# Altium integrated library TI Power Management Step-Up Regulator.IntLib: 226 symbols (part 11 of 11)
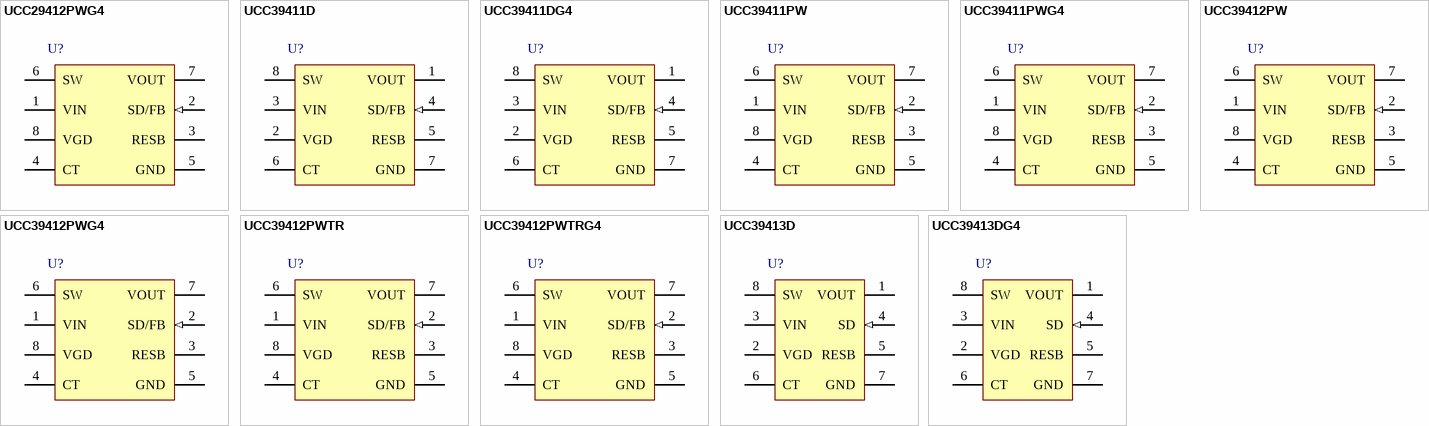
[diagram p16: symbols UCC29412PWG4 to UCC39413DG4]

## UCC29412PWG4
designator U?
Boost Regulator with 1 to 3.8 V Input and 3.3 V Output, -40 to 85 degC, 8-Pin TSSOP (PW); Manufacturer: Texas Instruments; PartNumber: UCC29412PWG4; Eco-Plan: Green (RoHS & no Sb/Br); Preset Vout(V): 3.3; Regulated Outputs(#): 1; SubFamily: Step-Up Regulator; Switching Frequency(Max)(kHz): 500; Synchronous Rectification: TRUE; Vin(Max)(V): 3.8; DatasheetVersion: SLUS245E; PackageVersion: revG, Feb-2011; PackageReference: PW8; PackageDescription: 8-Pin Plastic Thin Small Outline Package 3 x 4.4 mm Body ,0.65 mm Pitch; Supplier 1: Digi-Key; Supplier Part Number 1: UCC29412PWG4-ND; Supplier 2: Newark; Supplier Part Number 2: 54K2068; Supplier 3: Mouser; Supplier Part Number 3: 595-UCC29412PWG4; Topology: Boost; Vin(Min)(V): 1; Vout(Max)(V): 3.3; Vout(Min)(V): 3.3; Mounting Technology: Surface Mount; Code_JEDEC: MO-153; ComponentLink1Description: Datasheet; ComponentLink1URL: http://www.ti.com/general/docs/lit/getliterature.tsp?genericPartNumber=UCC29412&fileType=pdf; ComponentLink2Description: Package Specification; ComponentLink2URL: http://www.ti.com/litv/pdf/mtss001d
footprint PW8_N (TSOP, 8-Leads, Body 3x4.4mm, Pitch 0.65mm, IPC Medium Density)
footprint PW8_L (TSOP, 8-Leads, Body 3x4.4mm, Pitch 0.65mm, IPC High Density)
footprint PW8_M (TSOP, 8-Leads, Body 3x4.4mm, Pitch 0.65mm, IPC Low Density)
pins: 1 VIN (power) "Input voltage to supply the IC during start-up. After the output is running the IC draws power from VOUT or VGD.", 2 SD/FB (in) "For the UCC39411, this pin is used to adjust the output voltage via a resistive divider from VOUT. It also serves as the shutdown pin for all three versions. Pulling this pin low provides a shutdown signal to the IC.", 3 RESB (oc) "This pin provides an active low signal to alert the user when the main output voltage falls below 10% of its targeted value. The open-drain output can be used to reset a microcontroller that may be powered off of the main (See Datasheet)", 4 CT "This pin provides the timer for determining the reset period. The period is controlled by placing a capacitor to ground of value C = (0.81e-6) x  t where t is the desired reset period.", 5 GND (power) "Ground of the IC.", 6 SW (power) "An inductor is connected between this pin and VIN. The VGD (gate drive supply) flyback diode is also connected to this pin. When servicing the main output supply this pin pulls low, charging the inductor, then shuts off (See Datasheet)", 7 VOUT (power) "Main output voltage (3.3 V, 5 V, or adjustable), has highest priority in the multiplexing scheme, as long as VGD is above the critical level of 6.3 V. Startup at full load is achievable at input voltages down to 1 V", 8 VGD (power) "The VGD pin, which is coarsely regulated around 7 V (8.5 V for the UCC39413), is primarily used for the gate drive supply for the power switches in the IC. This pin can be loaded with up to 10 mA as long as it does not (See Datasheet)"

## UCC39411D
designator U?
Boost Regulator with 1 to 5.5 V Input and 2 to 5 V Output, 0 to 70 degC, 8-Pin SOIC (D), Green (RoHS & no Sb/Br); Manufacturer: Texas Instruments; PartNumber: UCC39411D; Regulated Outputs(#): 1; SubFamily: Step-Up Regulator; Switching Frequency(Max)(kHz): 500; Synchronous Rectification: TRUE; Vin(Max)(V): 5.5; Vout(Max)(V): 5; Vout(Min)(V): 2; DatasheetVersion: SLUS245E; PackageVersion: revM, Jun-2011; PackageReference: D8; PackageDescription: 8-Pin Plastic Small Outline Integrated Circuit, 4.9 x 3.9 mm, Pitch 1.27 mm Pitch; Supplier 1: Digi-Key; Supplier Part Number 1: UCC39411D-ND; Supplier 2: Newark; Supplier Part Number 2: 77C2609; Supplier 3: Mouser; Supplier Part Number 3: 595-UCC39411D; Eco-Plan: Green (RoHS & no Sb/Br); Topology: Boost; Vin(Min)(V): 1; Mounting Technology: Surface Mount; Code_JEDEC: MS-012AA; ComponentLink1Description: Datasheet; ComponentLink1URL: http://www.ti.com/general/docs/lit/getliterature.tsp?genericPartNumber=UCC39411&fileType=pdf; ComponentLink2Description: Package Specification; ComponentLink2URL: http://www.ti.com/litv/pdf/msoi002j
footprint D8_N (SOIC, 8-Leads, Body 4.9x3.9mm, Pitch 1.27mm, IPC Medium Density)
footprint D8_L (SOIC, 8-Leads, Body 4.9x3.9mm, Pitch 1.27mm, IPC High Density)
footprint D8_M (SOIC, 8-Leads, Body 4.9x3.9mm, Pitch 1.27mm, IPC Low Density)
pins: 1 VOUT (power) "Main output voltage (3.3 V, 5 V, or adjustable), has highest priority in the multiplexing scheme, as long as VGD is above the critical level of 6.3 V. Startup at full load is achievable at input voltages down to 1 V.", 2 VGD (power) "The VGD pin, which is coarsely regulated around 7 V (8.5 V for the UCC39413), is primarily used for the gate drive supply for the power switches in the IC. This pin can be loaded with up to 10 mA as long as it does not (See Datasheet)", 3 VIN (power) "Input voltage to supply the IC during start-up. After the output is running the IC draws power from VOUT or VGD.", 4 SD/FB (in) "For the UCC39411, this pin is used to adjust the output voltage via a resistive divider from VOUT. It also serves as the shutdown pin for all three versions. Pulling this pin low provides a shutdown signal to the IC.", 5 RESB (oc) "This pin provides an active low signal to alert the user when the main output voltage falls below 10% of its targeted value. The open-drain output can be used to reset a microcontroller that may be powered off of the main (See Datasheet)", 6 CT "This pin provides the timer for determining the reset period. The period is controlled by placing a capacitor to ground of value C = (0.81e-6) ´ t where t is the desired reset period.", 7 GND (power) "Ground of the IC.", 8 SW (power) "An inductor is connected between this pin and VIN. The VGD (gate drive supply) flyback diode is also connected to this pin. When servicing the main output supply this pin pulls low, charging the inductor, then shuts off (See Datasheet)"

## UCC39411DG4
designator U?
Boost Regulator with 1 to 5.5 V Input and 2 to 5 V Output, 0 to 70 degC, 8-Pin SOIC (D), Green (RoHS & no Sb/Br); Manufacturer: Texas Instruments; PartNumber: UCC39411DG4; Regulated Outputs(#): 1; SubFamily: Step-Up Regulator; Switching Frequency(Max)(kHz): 500; Synchronous Rectification: TRUE; Vin(Max)(V): 5.5; Vout(Max)(V): 5; Vout(Min)(V): 2; DatasheetVersion: SLUS245E; PackageVersion: revM, Jun-2011; PackageReference: D8; PackageDescription: 8-Pin Plastic Small Outline Integrated Circuit, 4.9 x 3.9 mm, Pitch 1.27 mm Pitch; Supplier 1: Digi-Key; Supplier Part Number 1: UCC39411DG4-ND; Supplier 2: Newark; Supplier Part Number 2: 54K2195; Supplier 3: Mouser; Supplier Part Number 3: 595-UCC39411DG4; Eco-Plan: Green (RoHS & no Sb/Br); Topology: Boost; Vin(Min)(V): 1; Mounting Technology: Surface Mount; Code_JEDEC: MS-012AA; ComponentLink1Description: Datasheet; ComponentLink1URL: http://www.ti.com/general/docs/lit/getliterature.tsp?genericPartNumber=UCC39411&fileType=pdf; ComponentLink2Description: Package Specification; ComponentLink2URL: http://www.ti.com/litv/pdf/msoi002j
footprint D8_N (SOIC, 8-Leads, Body 4.9x3.9mm, Pitch 1.27mm, IPC Medium Density)
footprint D8_L (SOIC, 8-Leads, Body 4.9x3.9mm, Pitch 1.27mm, IPC High Density)
footprint D8_M (SOIC, 8-Leads, Body 4.9x3.9mm, Pitch 1.27mm, IPC Low Density)
pins: 1 VOUT (power) "Main output voltage (3.3 V, 5 V, or adjustable), has highest priority in the multiplexing scheme, as long as VGD is above the critical level of 6.3 V. Startup at full load is achievable at input voltages down to 1 V.", 2 VGD (power) "The VGD pin, which is coarsely regulated around 7 V (8.5 V for the UCC39413), is primarily used for the gate drive supply for the power switches in the IC. This pin can be loaded with up to 10 mA as long as it does not (See Datasheet)", 3 VIN (power) "Input voltage to supply the IC during start-up. After the output is running the IC draws power from VOUT or VGD.", 4 SD/FB (in) "For the UCC39411, this pin is used to adjust the output voltage via a resistive divider from VOUT. It also serves as the shutdown pin for all three versions. Pulling this pin low provides a shutdown signal to the IC.", 5 RESB (oc) "This pin provides an active low signal to alert the user when the main output voltage falls below 10% of its targeted value. The open-drain output can be used to reset a microcontroller that may be powered off of the main (See Datasheet)", 6 CT "This pin provides the timer for determining the reset period. The period is controlled by placing a capacitor to ground of value C = (0.81e-6) ´ t where t is the desired reset period.", 7 GND (power) "Ground of the IC.", 8 SW (power) "An inductor is connected between this pin and VIN. The VGD (gate drive supply) flyback diode is also connected to this pin. When servicing the main output supply this pin pulls low, charging the inductor, then shuts off (See Datasheet)"

## UCC39411PW
designator U?
Boost Voltage Converter with 1 to 5.5 V Input and 2 to 5 V Output, 0 to 70 degC, 8-Pin TSSOP (PW), Green (RoHS & no Sb/Br); Manufacturer: Texas Instruments; PartNumber: UCC39411PW; Regulated Outputs(#): 1; SubFamily: Step-Up Regulator; Switching Frequency(Max)(kHz): 500; Synchronous Rectification: TRUE; Vin(Max)(V): 5.5; Vout(Max)(V): 5; Vout(Min)(V): 2; DatasheetVersion: SLUS245E; PackageVersion: revG, Feb-2011; PackageReference: PW8; PackageDescription: 8-Pin Plastic Thin Small Outline Package 3 x 4.4 mm Body ,0.65 mm Pitch; Supplier 1: Digi-Key; Supplier Part Number 1: 296-3227-5-ND; Supplier 2: Newark; Supplier Part Number 2: 77C2613; Supplier 3: Mouser; Supplier Part Number 3: 595-UCC39411PW; Eco-Plan: Green (RoHS & no Sb/Br); Topology: Boost; Vin(Min)(V): 1; Mounting Technology: Surface Mount; Code_JEDEC: MO-153; ComponentLink1Description: Datasheet; ComponentLink1URL: http://www.ti.com/general/docs/lit/getliterature.tsp?genericPartNumber=UCC39411&fileType=pdf; ComponentLink2Description: Package Specification; ComponentLink2URL: http://www.ti.com/litv/pdf/mtss001d
footprint PW8_N (TSOP, 8-Leads, Body 3x4.4mm, Pitch 0.65mm, IPC Medium Density)
footprint PW8_L (TSOP, 8-Leads, Body 3x4.4mm, Pitch 0.65mm, IPC High Density)
footprint PW8_M (TSOP, 8-Leads, Body 3x4.4mm, Pitch 0.65mm, IPC Low Density)
pins: 1 VIN (power) "Input voltage to supply the IC during start-up. After the output is running the IC draws power from VOUT or VGD.", 2 SD/FB (in) "For the UCC39411, this pin is used to adjust the output voltage via a resistive divider from VOUT. It also serves as the shutdown pin for all three versions. Pulling this pin low provides a shutdown signal to the IC.", 3 RESB (oc) "This pin provides an active low signal to alert the user when the main output voltage falls below 10% of its targeted value. The open-drain output can be used to reset a microcontroller that may be powered off of the main (See Datasheet)", 4 CT "This pin provides the timer for determining the reset period. The period is controlled by placing a capacitor to ground of value C = (0.81e-6) x  t where t is the desired reset period.", 5 GND (power) "Ground of the IC.", 6 SW (power) "An inductor is connected between this pin and VIN. The VGD (gate drive supply) flyback diode is also connected to this pin. When servicing the main output supply this pin pulls low, charging the inductor, then shuts off (See Datasheet)", 7 VOUT (power) "Main output voltage (3.3 V, 5 V, or adjustable), has highest priority in the multiplexing scheme, as long as VGD is above the critical level of 6.3 V. Startup at full load is achievable at input voltages down to 1 V", 8 VGD (power) "The VGD pin, which is coarsely regulated around 7 V (8.5 V for the UCC39413), is primarily used for the gate drive supply for the power switches in the IC. This pin can be loaded with up to 10 mA as long as it does not (See Datasheet)"

## UCC39411PWG4
designator U?
Boost Voltage Converter with 1 to 5.5 V Input and 2 to 5 V Output, 0 to 70 degC, 8-Pin TSSOP (PW), Green (RoHS & no Sb/Br); Manufacturer: Texas Instruments; PartNumber: UCC39411PWG4; Regulated Outputs(#): 1; SubFamily: Step-Up Regulator; Switching Frequency(Max)(kHz): 500; Synchronous Rectification: TRUE; Vin(Max)(V): 5.5; Vout(Max)(V): 5; Vout(Min)(V): 2; DatasheetVersion: SLUS245E; PackageVersion: revG, Feb-2011; PackageReference: PW8; PackageDescription: 8-Pin Plastic Thin Small Outline Package 3 x 4.4 mm Body ,0.65 mm Pitch; Supplier 1: Digi-Key; Supplier Part Number 1: UCC39411PWG4-ND; Supplier 2: Newark; Supplier Part Number 2: 14M4018; Supplier 3: Mouser; Supplier Part Number 3: 595-UCC39411PWG4; Eco-Plan: Green (RoHS & no Sb/Br); Topology: Boost; Vin(Min)(V): 1; Mounting Technology: Surface Mount; Code_JEDEC: MO-153; ComponentLink1Description: Datasheet; ComponentLink1URL: http://www.ti.com/general/docs/lit/getliterature.tsp?genericPartNumber=UCC39411&fileType=pdf; ComponentLink2Description: Package Specification; ComponentLink2URL: http://www.ti.com/litv/pdf/mtss001d
footprint PW8_N (TSOP, 8-Leads, Body 3x4.4mm, Pitch 0.65mm, IPC Medium Density)
footprint PW8_L (TSOP, 8-Leads, Body 3x4.4mm, Pitch 0.65mm, IPC High Density)
footprint PW8_M (TSOP, 8-Leads, Body 3x4.4mm, Pitch 0.65mm, IPC Low Density)
pins: 1 VIN (power) "Input voltage to supply the IC during start-up. After the output is running the IC draws power from VOUT or VGD.", 2 SD/FB (in) "For the UCC39411, this pin is used to adjust the output voltage via a resistive divider from VOUT. It also serves as the shutdown pin for all three versions. Pulling this pin low provides a shutdown signal to the IC.", 3 RESB (oc) "This pin provides an active low signal to alert the user when the main output voltage falls below 10% of its targeted value. The open-drain output can be used to reset a microcontroller that may be powered off of the main (See Datasheet)", 4 CT "This pin provides the timer for determining the reset period. The period is controlled by placing a capacitor to ground of value C = (0.81e-6) x  t where t is the desired reset period.", 5 GND (power) "Ground of the IC.", 6 SW (power) "An inductor is connected between this pin and VIN. The VGD (gate drive supply) flyback diode is also connected to this pin. When servicing the main output supply this pin pulls low, charging the inductor, then shuts off (See Datasheet)", 7 VOUT (power) "Main output voltage (3.3 V, 5 V, or adjustable), has highest priority in the multiplexing scheme, as long as VGD is above the critical level of 6.3 V. Startup at full load is achievable at input voltages down to 1 V", 8 VGD (power) "The VGD pin, which is coarsely regulated around 7 V (8.5 V for the UCC39413), is primarily used for the gate drive supply for the power switches in the IC. This pin can be loaded with up to 10 mA as long as it does not (See Datasheet)"

## UCC39412PW
designator U?
Boost Voltage Converter with 1 to 3.8 V Input and 3.3 V Output, 0 to 70 degC, 8-Pin TSSOP (PW), Green (RoHS & no Sb/Br); Manufacturer: Texas Instruments; PartNumber: UCC39412PW; Preset Vout(V): 3.3; Regulated Outputs(#): 1; SubFamily: Step-Up Regulator; Switching Frequency(Max)(kHz): 500; Synchronous Rectification: TRUE; Vin(Max)(V): 3.8; DatasheetVersion: SLUS245E; PackageVersion: revG, Feb-2011; PackageReference: PW8; PackageDescription: 8-Pin Plastic Thin Small Outline Package 3 x 4.4 mm Body ,0.65 mm Pitch; Supplier 1: Newark; Supplier Part Number 1: 77C2618; Supplier 2: Mouser; Supplier Part Number 2: 595-UCC39412PW; Eco-Plan: Green (RoHS & no Sb/Br); Topology: Boost; Vin(Min)(V): 1; Vout(Max)(V): 3.3; Vout(Min)(V): 3.3; Mounting Technology: Surface Mount; Code_JEDEC: MO-153; ComponentLink1Description: Datasheet; ComponentLink1URL: http://www.ti.com/general/docs/lit/getliterature.tsp?genericPartNumber=UCC39412&fileType=pdf; ComponentLink2Description: Package Specification; ComponentLink2URL: http://www.ti.com/litv/pdf/mtss001d
footprint PW8_N (TSOP, 8-Leads, Body 3x4.4mm, Pitch 0.65mm, IPC Medium Density)
footprint PW8_L (TSOP, 8-Leads, Body 3x4.4mm, Pitch 0.65mm, IPC High Density)
footprint PW8_M (TSOP, 8-Leads, Body 3x4.4mm, Pitch 0.65mm, IPC Low Density)
pins: 1 VIN (power) "Input voltage to supply the IC during start-up. After the output is running the IC draws power from VOUT or VGD.", 2 SD/FB (in) "For the UCC39411, this pin is used to adjust the output voltage via a resistive divider from VOUT. It also serves as the shutdown pin for all three versions. Pulling this pin low provides a shutdown signal to the IC.", 3 RESB (oc) "This pin provides an active low signal to alert the user when the main output voltage falls below 10% of its targeted value. The open-drain output can be used to reset a microcontroller that may be powered off of the main (See Datasheet)", 4 CT "This pin provides the timer for determining the reset period. The period is controlled by placing a capacitor to ground of value C = (0.81e-6) x t where t is the desired reset period.", 5 GND (power) "Ground of the IC", 6 SW (power) "An inductor is connected between this pin and VIN. The VGD (gate drive supply) flyback diode is also connected to this pin. When servicing the main output supply this pin pulls low, charging the inductor, then shuts off (See Datasheet)", 7 VOUT (power) "Main output voltage (3.3 V, 5 V, or adjustable), has highest priority in the multiplexing scheme, as long as VGD is above the critical level of 6.3 V. Startup at full load is achievable at input voltages down to 1 V.", 8 VGD (power) "The VGD pin, which is coarsely regulated around 7 V (8.5 V for the UCC39413), is primarily used for the gate drive supply for the power switches in the IC. This pin can be loaded with up to 10 mA as long as it does not (See Datasheet)"

## UCC39412PWG4
designator U?
Boost Voltage Converter with 1 to 3.8 V Input and 3.3 V Output, 0 to 70 degC, 8-Pin TSSOP (PW), Green (RoHS & no Sb/Br); Manufacturer: Texas Instruments; PartNumber: UCC39412PWG4; Preset Vout(V): 3.3; Regulated Outputs(#): 1; SubFamily: Step-Up Regulator; Switching Frequency(Max)(kHz): 500; Synchronous Rectification: TRUE; Vin(Max)(V): 3.8; DatasheetVersion: SLUS245E; PackageVersion: revG, Feb-2011; PackageReference: PW8; PackageDescription: 8-Pin Plastic Thin Small Outline Package 3 x 4.4 mm Body ,0.65 mm Pitch; Supplier 1: Digi-Key; Supplier Part Number 1: UCC39412PWG4-ND; Supplier 2: Newark; Supplier Part Number 2: 58K7086; Supplier 3: Mouser; Supplier Part Number 3: 595-UCC39412PWG4; Eco-Plan: Green (RoHS & no Sb/Br); Topology: Boost; Vin(Min)(V): 1; Vout(Max)(V): 3.3; Vout(Min)(V): 3.3; Mounting Technology: Surface Mount; Code_JEDEC: MO-153; ComponentLink1Description: Datasheet; ComponentLink1URL: http://www.ti.com/general/docs/lit/getliterature.tsp?genericPartNumber=UCC39412&fileType=pdf; ComponentLink2Description: Package Specification; ComponentLink2URL: http://www.ti.com/litv/pdf/mtss001d
footprint PW8_N (TSOP, 8-Leads, Body 3x4.4mm, Pitch 0.65mm, IPC Medium Density)
footprint PW8_L (TSOP, 8-Leads, Body 3x4.4mm, Pitch 0.65mm, IPC High Density)
footprint PW8_M (TSOP, 8-Leads, Body 3x4.4mm, Pitch 0.65mm, IPC Low Density)
pins: 1 VIN (power) "Input voltage to supply the IC during start-up. After the output is running the IC draws power from VOUT or VGD.", 2 SD/FB (in) "For the UCC39411, this pin is used to adjust the output voltage via a resistive divider from VOUT. It also serves as the shutdown pin for all three versions. Pulling this pin low provides a shutdown signal to the IC.", 3 RESB (oc) "This pin provides an active low signal to alert the user when the main output voltage falls below 10% of its targeted value. The open-drain output can be used to reset a microcontroller that may be powered off of the main (See Datasheet)", 4 CT "This pin provides the timer for determining the reset period. The period is controlled by placing a capacitor to ground of value C = (0.81e-6) x t where t is the desired reset period.", 5 GND (power) "Ground of the IC", 6 SW (power) "An inductor is connected between this pin and VIN. The VGD (gate drive supply) flyback diode is also connected to this pin. When servicing the main output supply this pin pulls low, charging the inductor, then shuts off (See Datasheet)", 7 VOUT (power) "Main output voltage (3.3 V, 5 V, or adjustable), has highest priority in the multiplexing scheme, as long as VGD is above the critical level of 6.3 V. Startup at full load is achievable at input voltages down to 1 V.", 8 VGD (power) "The VGD pin, which is coarsely regulated around 7 V (8.5 V for the UCC39413), is primarily used for the gate drive supply for the power switches in the IC. This pin can be loaded with up to 10 mA as long as it does not (See Datasheet)"

## UCC39412PWTR
designator U?
Boost Voltage Converter with 1 to 3.8 V Input and 3.3 V Output, 0 to 70 degC, 8-Pin TSSOP (PW), Green (RoHS & no Sb/Br); Manufacturer: Texas Instruments; PartNumber: UCC39412PWTR; Preset Vout(V): 3.3; Regulated Outputs(#): 1; SubFamily: Step-Up Regulator; Switching Frequency(Max)(kHz): 500; Synchronous Rectification: TRUE; Vin(Max)(V): 3.8; DatasheetVersion: SLUS245E; PackageVersion: revG, Feb-2011; PackageReference: PW8; PackageDescription: 8-Pin Plastic Thin Small Outline Package 3 x 4.4 mm Body ,0.65 mm Pitch; Supplier 1: Digi-Key; Supplier Part Number 1: UCC39412PWTR-ND; Supplier 2: Newark; Supplier Part Number 2: 77C2619; Supplier 3: Mouser; Supplier Part Number 3: 595-UCC39412PWTR; Eco-Plan: Green (RoHS & no Sb/Br); Topology: Boost; Vin(Min)(V): 1; Vout(Max)(V): 3.3; Vout(Min)(V): 3.3; Mounting Technology: Surface Mount; Code_JEDEC: MO-153; ComponentLink1Description: Datasheet; ComponentLink1URL: http://www.ti.com/general/docs/lit/getliterature.tsp?genericPartNumber=UCC39412&fileType=pdf; ComponentLink2Description: Package Specification; ComponentLink2URL: http://www.ti.com/litv/pdf/mtss001d
footprint PW8_N (TSOP, 8-Leads, Body 3x4.4mm, Pitch 0.65mm, IPC Medium Density)
footprint PW8_L (TSOP, 8-Leads, Body 3x4.4mm, Pitch 0.65mm, IPC High Density)
footprint PW8_M (TSOP, 8-Leads, Body 3x4.4mm, Pitch 0.65mm, IPC Low Density)
pins: 1 VIN (power) "Input voltage to supply the IC during start-up. After the output is running the IC draws power from VOUT or VGD.", 2 SD/FB (in) "For the UCC39411, this pin is used to adjust the output voltage via a resistive divider from VOUT. It also serves as the shutdown pin for all three versions. Pulling this pin low provides a shutdown signal to the IC.", 3 RESB (oc) "This pin provides an active low signal to alert the user when the main output voltage falls below 10% of its targeted value. The open-drain output can be used to reset a microcontroller that may be powered off of the main (See Datasheet)", 4 CT "This pin provides the timer for determining the reset period. The period is controlled by placing a capacitor to ground of value C = (0.81e-6) x t where t is the desired reset period.", 5 GND (power) "Ground of the IC", 6 SW (power) "An inductor is connected between this pin and VIN. The VGD (gate drive supply) flyback diode is also connected to this pin. When servicing the main output supply this pin pulls low, charging the inductor, then shuts off (See Datasheet)", 7 VOUT (power) "Main output voltage (3.3 V, 5 V, or adjustable), has highest priority in the multiplexing scheme, as long as VGD is above the critical level of 6.3 V. Startup at full load is achievable at input voltages down to 1 V.", 8 VGD (power) "The VGD pin, which is coarsely regulated around 7 V (8.5 V for the UCC39413), is primarily used for the gate drive supply for the power switches in the IC. This pin can be loaded with up to 10 mA as long as it does not (See Datasheet)"

## UCC39412PWTRG4
designator U?
Boost Voltage Converter with 1 to 3.8 V Input and 3.3 V Output, 0 to 70 degC, 8-Pin TSSOP (PW), Green (RoHS & no Sb/Br); Manufacturer: Texas Instruments; PartNumber: UCC39412PWTRG4; Preset Vout(V): 3.3; Regulated Outputs(#): 1; SubFamily: Step-Up Regulator; Switching Frequency(Max)(kHz): 500; Synchronous Rectification: TRUE; Vin(Max)(V): 3.8; DatasheetVersion: SLUS245E; PackageVersion: revG, Feb-2011; PackageReference: PW8; PackageDescription: 8-Pin Plastic Thin Small Outline Package 3 x 4.4 mm Body ,0.65 mm Pitch; Supplier 1: Digi-Key; Supplier Part Number 1: UCC39412PWTRG4-ND; Supplier 2: Newark; Supplier Part Number 2: 54K2199; Supplier 3: Mouser; Supplier Part Number 3: 595-UCC39412PWTRG4; Eco-Plan: Green (RoHS & no Sb/Br); Topology: Boost; Vin(Min)(V): 1; Vout(Max)(V): 3.3; Vout(Min)(V): 3.3; Mounting Technology: Surface Mount; Code_JEDEC: MO-153; ComponentLink1Description: Datasheet; ComponentLink1URL: http://www.ti.com/general/docs/lit/getliterature.tsp?genericPartNumber=UCC39412&fileType=pdf; ComponentLink2Description: Package Specification; ComponentLink2URL: http://www.ti.com/litv/pdf/mtss001d
footprint PW8_N (TSOP, 8-Leads, Body 3x4.4mm, Pitch 0.65mm, IPC Medium Density)
footprint PW8_L (TSOP, 8-Leads, Body 3x4.4mm, Pitch 0.65mm, IPC High Density)
footprint PW8_M (TSOP, 8-Leads, Body 3x4.4mm, Pitch 0.65mm, IPC Low Density)
pins: 1 VIN (power) "Input voltage to supply the IC during start-up. After the output is running the IC draws power from VOUT or VGD.", 2 SD/FB (in) "For the UCC39411, this pin is used to adjust the output voltage via a resistive divider from VOUT. It also serves as the shutdown pin for all three versions. Pulling this pin low provides a shutdown signal to the IC.", 3 RESB (oc) "This pin provides an active low signal to alert the user when the main output voltage falls below 10% of its targeted value. The open-drain output can be used to reset a microcontroller that may be powered off of the main (See Datasheet)", 4 CT "This pin provides the timer for determining the reset period. The period is controlled by placing a capacitor to ground of value C = (0.81e-6) x t where t is the desired reset period.", 5 GND (power) "Ground of the IC", 6 SW (power) "An inductor is connected between this pin and VIN. The VGD (gate drive supply) flyback diode is also connected to this pin. When servicing the main output supply this pin pulls low, charging the inductor, then shuts off (See Datasheet)", 7 VOUT (power) "Main output voltage (3.3 V, 5 V, or adjustable), has highest priority in the multiplexing scheme, as long as VGD is above the critical level of 6.3 V. Startup at full load is achievable at input voltages down to 1 V.", 8 VGD (power) "The VGD pin, which is coarsely regulated around 7 V (8.5 V for the UCC39413), is primarily used for the gate drive supply for the power switches in the IC. This pin can be loaded with up to 10 mA as long as it does not (See Datasheet)"

## UCC39413D
designator U?
Boost Voltage Converter with 1 to 5.5 V Input and 5 V Output, 0 to 70 degC, 8-Pin SOIC (D); Manufacturer: Texas Instruments; PartNumber: UCC39413D; Eco-Plan: Green (RoHS & no Sb/Br); Preset Vout(V): 5; Regulated Outputs(#): 1; SubFamily: Step-Up Regulator; Switching Frequency(Max)(kHz): 500; Synchronous Rectification: TRUE; Vin(Max)(V): 5.5; DatasheetVersion: SLUS245E; PackageVersion: revM, Jun-2011; PackageReference: D8; PackageDescription: 8-Pin Plastic Small Outline Integrated Circuit, 4.9 x 3.9 mm, Pitch 1.27 mm Pitch; Supplier 1: Newark; Supplier Part Number 1: 77C2620; Supplier 2: Mouser; Supplier Part Number 2: 595-UCC39413D; Topology: Boost; Vin(Min)(V): 1; Vout(Max)(V): 5; Vout(Min)(V): 5; Mounting Technology: Surface Mount; Code_JEDEC: MS-012AA; ComponentLink1Description: Datasheet; ComponentLink1URL: http://www.ti.com/general/docs/lit/getliterature.tsp?genericPartNumber=UCC39413&fileType=pdf; ComponentLink2Description: Package Specification; ComponentLink2URL: http://www.ti.com/litv/pdf/msoi002j
footprint D8_N (SOIC, 8-Leads, Body 4.9x3.9mm, Pitch 1.27mm, IPC Medium Density)
footprint D8_L (SOIC, 8-Leads, Body 4.9x3.9mm, Pitch 1.27mm, IPC High Density)
footprint D8_M (SOIC, 8-Leads, Body 4.9x3.9mm, Pitch 1.27mm, IPC Low Density)
pins: 1 VOUT (power) "Main output voltage (3.3 V, 5 V, or adjustable), has highest priority in the multiplexing scheme, as long as VGD is above the critical level of 6.3 V. Startup at full load is achievable at input voltages down to 1 V.", 2 VGD (power) "The VGD pin, which is coarsely regulated around 7 V (8.5 V for the UCC39413), is primarily used for the gate drive supply for the power switches in the IC. This pin can be loaded with up to 10 mA as long as it does not (See Datasheet)", 3 VIN (power) "Input voltage to supply the IC during start-up. After the output is running the IC draws power from VOUT or VGD.", 4 SD (in) "For the UCC39411, this pin is used to adjust the output voltage via a resistive divider from VOUT. It also serves as the shutdown pin for all three versions. Pulling this pin low provides a shutdown signal to the IC.", 5 RESB (oc) "This pin provides an active low signal to alert the user when the main output voltage falls below 10% of its targeted value. The open-drain output can be used to reset a microcontroller that may be powered off of the main (See Datasheet)", 6 CT "This pin provides the timer for determining the reset period. The period is controlled by placing a capacitor to ground of value C = (0.81e-6) x t where t is the desired reset period.", 7 GND (power) "Ground of the IC.", 8 SW (power) "An inductor is connected between this pin and VIN. The VGD (gate drive supply) flyback diode is also connected to this pin. When servicing the main output supply this pin pulls low, charging the inductor, then shuts off (See Datasheet)"

## UCC39413DG4
designator U?
Boost Voltage Converter with 1 to 5.5 V Input and 5 V Output, 0 to 70 degC, 8-Pin SOIC (D); Manufacturer: Texas Instruments; PartNumber: UCC39413DG4; Eco-Plan: Green (RoHS & no Sb/Br); Preset Vout(V): 5; Regulated Outputs(#): 1; SubFamily: Step-Up Regulator; Switching Frequency(Max)(kHz): 500; Synchronous Rectification: TRUE; Vin(Max)(V): 5.5; DatasheetVersion: SLUS245E; PackageVersion: revM, Jun-2011; PackageReference: D8; PackageDescription: 8-Pin Plastic Small Outline Integrated Circuit, 4.9 x 3.9 mm, Pitch 1.27 mm Pitch; Supplier 1: Digi-Key; Supplier Part Number 1: UCC39413DG4-ND; Supplier 2: Newark; Supplier Part Number 2: 54K2200; Supplier 3: Mouser; Supplier Part Number 3: 595-UCC39413DG4; Topology: Boost; Vin(Min)(V): 1; Vout(Max)(V): 5; Vout(Min)(V): 5; Mounting Technology: Surface Mount; Code_JEDEC: MS-012AA; ComponentLink1Description: Datasheet; ComponentLink1URL: http://www.ti.com/general/docs/lit/getliterature.tsp?genericPartNumber=UCC39413&fileType=pdf; ComponentLink2Description: Package Specification; ComponentLink2URL: http://www.ti.com/litv/pdf/msoi002j
footprint D8_N (SOIC, 8-Leads, Body 4.9x3.9mm, Pitch 1.27mm, IPC Medium Density)
footprint D8_L (SOIC, 8-Leads, Body 4.9x3.9mm, Pitch 1.27mm, IPC High Density)
footprint D8_M (SOIC, 8-Leads, Body 4.9x3.9mm, Pitch 1.27mm, IPC Low Density)
pins: 1 VOUT (power) "Main output voltage (3.3 V, 5 V, or adjustable), has highest priority in the multiplexing scheme, as long as VGD is above the critical level of 6.3 V. Startup at full load is achievable at input voltages down to 1 V.", 2 VGD (power) "The VGD pin, which is coarsely regulated around 7 V (8.5 V for the UCC39413), is primarily used for the gate drive supply for the power switches in the IC. This pin can be loaded with up to 10 mA as long as it does not (See Datasheet)", 3 VIN (power) "Input voltage to supply the IC during start-up. After the output is running the IC draws power from VOUT or VGD.", 4 SD (in) "For the UCC39411, this pin is used to adjust the output voltage via a resistive divider from VOUT. It also serves as the shutdown pin for all three versions. Pulling this pin low provides a shutdown signal to the IC.", 5 RESB (oc) "This pin provides an active low signal to alert the user when the main output voltage falls below 10% of its targeted value. The open-drain output can be used to reset a microcontroller that may be powered off of the main (See Datasheet)", 6 CT "This pin provides the timer for determining the reset period. The period is controlled by placing a capacitor to ground of value C = (0.81e-6) x t where t is the desired reset period.", 7 GND (power) "Ground of the IC.", 8 SW (power) "An inductor is connected between this pin and VIN. The VGD (gate drive supply) flyback diode is also connected to this pin. When servicing the main output supply this pin pulls low, charging the inductor, then shuts off (See Datasheet)"